# EAGLE library part MF2X9M (library gost_con_mini-fit)
Molex Mini-Fit Jr.™ Connectors
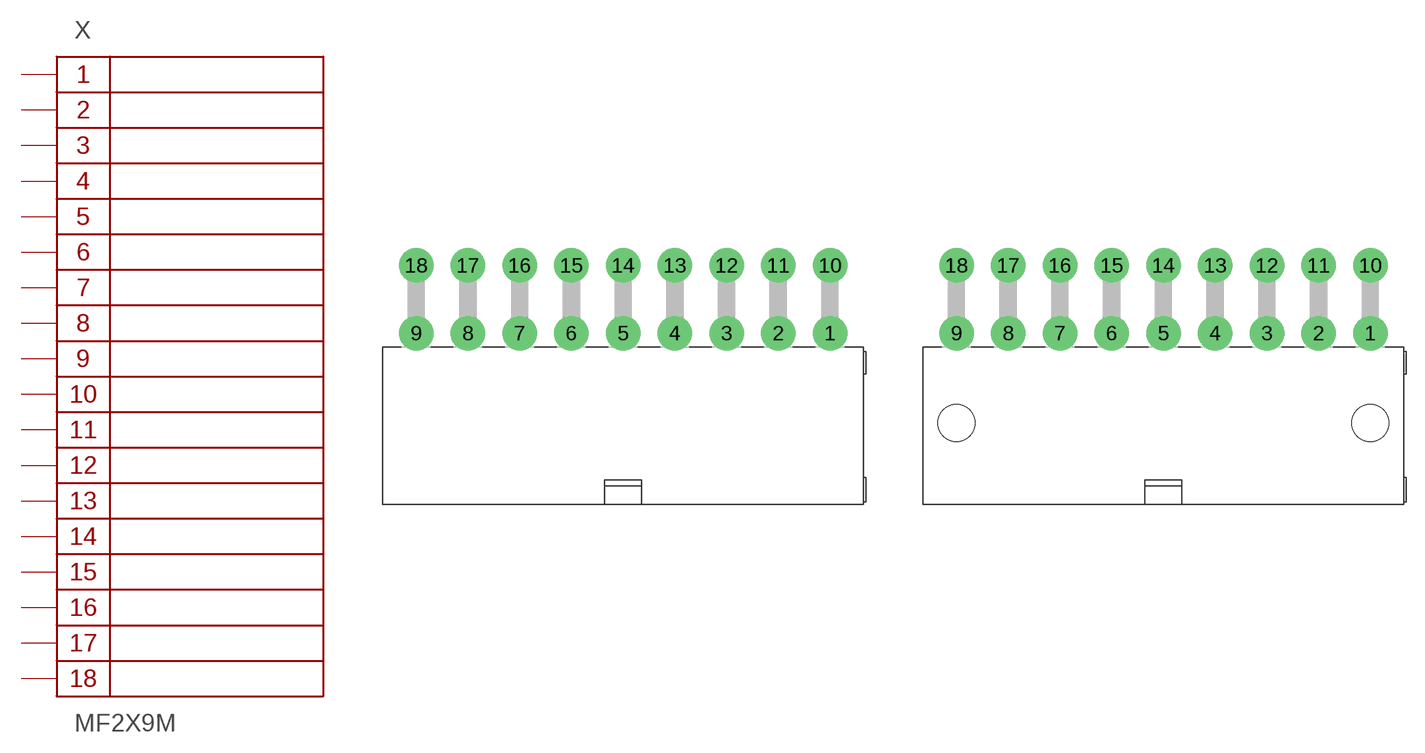
[diagram p9: symbol with the pads of MF2X9MR; footprints MF2X9MR, MF2X9MRA]

Designator prefix X

## MF2X9MR  [MF2X9MR]
1  1
2  2
3  3
4  4
5  5
6  6
7  7
8  8
9  9
10  10
11  11
12  12
13  13
14  14
15  15
16  16
17  17
18  18

## MF2X9MRA  [MF2X9MRA]
Pads as for MF2X9MR

## MF2X9MA  [MF2X9MA]
Pads as for MF2X9MR

## MF2X9MRB  [MF2X9MRB]
Pads as for MF2X9MR

## Footprint MF2X9MR (pad centres in mm)
drill 1.8 pad 2.8: 1 16.8,-2.1; 2 12.6,-2.1; 3 8.4,-2.1; 4 4.2,-2.1; 5 0,-2.1; 6 -4.2,-2.1; 7 -8.4,-2.1; 8 -12.6,-2.1; 9 -16.8,-2.1; 10 16.8,3.4; 11 12.6,3.4; 12 8.4,3.4; 13 4.2,3.4; 14 0,3.4; 15 -4.2,3.4; 16 -8.4,3.4; 17 -12.6,3.4; 18 -16.8,3.4

## Footprint MF2X9MRA (pad centres in mm)
drill 1.8 pad 2.8: 1 16.8,-2.1; 2 12.6,-2.1; 3 8.4,-2.1; 4 4.2,-2.1; 5 0,-2.1; 6 -4.2,-2.1; 7 -8.4,-2.1; 8 -12.6,-2.1; 9 -16.8,-2.1; 10 16.8,3.4; 11 12.6,3.4; 12 8.4,3.4; 13 4.2,3.4; 14 0,3.4; 15 -4.2,3.4; 16 -8.4,3.4; 17 -12.6,3.4; 18 -16.8,3.4
hole 3 at 16.8,-9.4
hole 3 at -16.8,-9.4

## Footprint MF2X9MA (pad centres in mm)
drill 1.4 pad 2.6: 1 16.8,-2.75; 2 12.6,-2.75; 3 8.4,-2.75; 4 4.2,-2.75; 5 0,-2.75; 6 -4.2,-2.75; 7 -8.4,-2.75; 8 -12.6,-2.75; 9 -16.8,-2.75; 10 16.8,2.75; 11 12.6,2.75; 12 8.4,2.75; 13 4.2,2.75; 14 0,2.75; 15 -4.2,2.75; 16 -8.4,2.75; 17 -12.6,2.75; 18 -16.8,2.75

## Footprint MF2X9MRB (pad centres in mm)
drill 1.8 pad 2.8: 1 16.8,-2.1; 2 12.6,-2.1; 3 8.4,-2.1; 4 4.2,-2.1; 5 0,-2.1; 6 -4.2,-2.1; 7 -8.4,-2.1; 8 -12.6,-2.1; 9 -16.8,-2.1; 10 16.8,3.4; 11 12.6,3.4; 12 8.4,3.4; 13 4.2,3.4; 14 0,3.4; 15 -4.2,3.4; 16 -8.4,3.4; 17 -12.6,3.4; 18 -16.8,3.4
hole 2.4 at 21.4,-6.3
hole 2.4 at -21.4,-6.3